# Altium schematic symbol library mikroBUS Socket.SchLib: 1 symbol
Pins are listed as number, name and electrical type; pins without a type are passive.

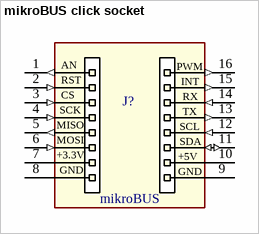
[diagram p0: symbol mikroBUS click socket]

## mikroBUS click socket
designator J?, comment mikroBUS
mikroBUS Click Socket; MPN: PPTC081LFBN-RC; Manufacturer: Sullins Connector Solutions; Status: New; Verified by: *; Verified date: *; Quantity Override: 2
pins: 1 AN (out), 2 RST (in), 3 CS (in), 4 SCK (in), 5 MISO (out), 6 MOSI (in), 7 +3.3V (power), 8 GND (power), 9 GND (power), 10 +5V (power), 11 SDA (io), 12 SCL (in), 13 TX (out), 14 RX (in), 15 INT (out), 16 PWM (out)